# EAGLE library part TMP101 (library SparkFun-DigitalIC)
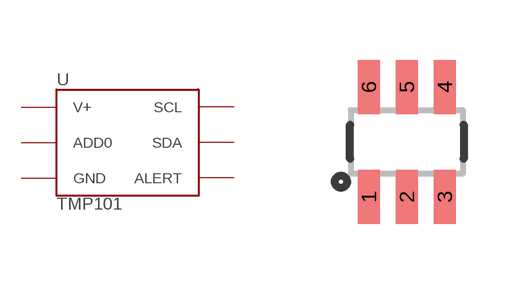
[diagram p144: symbol with the pads of SOT23-6; footprint SOT23-6]

Designator prefix U

## TMP101  [SOT23-6]
1  SCL
2  GND  pwr
3  ALERT  out
4  V+  pwr
5  ADD0  in
6  SDA

## Footprint SOT23-6 (pad centres in mm)
smd 0.55 x 1.35: 1 -0.95,-1.375; 2 0,-1.375; 3 0.95,-1.375; 4 0.95,1.375; 5 0,1.375; 6 -0.95,1.375